# Altium footprint library ece315.PcbLib: 16 footprints
Each footprint in its own frame and in the unit in brackets; x right, y up, seen from the top. Pads: shape width x height; smd on the part's side, far side on the other; paste and mask are expansions set on the pad; w line width, h text height; cw(c..) or ccw(c..) is an arc to the next point about the centre after c.
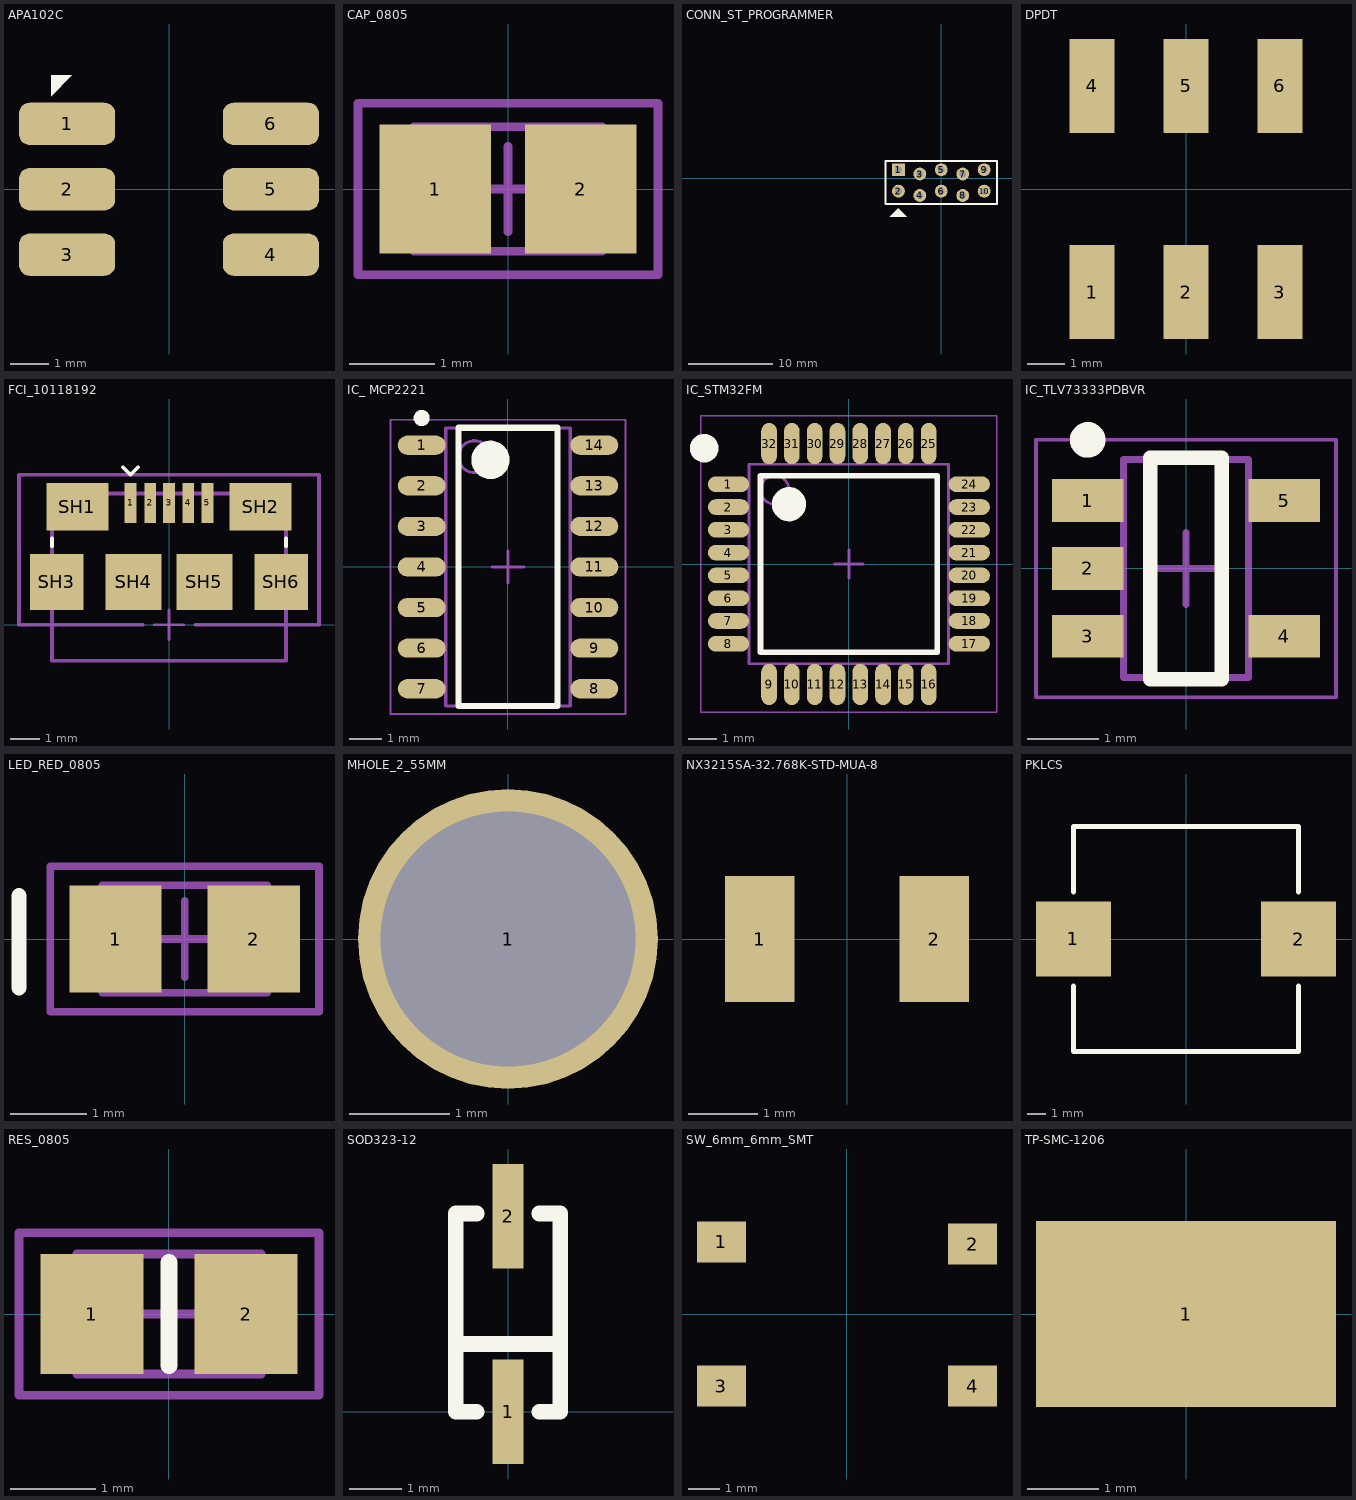
[diagram p0: the footprints below, top view; thin cyan lines are the x and y axes]

## APA102C [mm]
pads (6):
  rrect50% 2.5x1.1 smd: 1(-2.65,1.7) 2(-2.65,0) 3(-2.65,-1.7) 4(2.65,-1.7) 5(2.65,0) 6(2.65,1.7)
Top Overlay:
  region: -3.063,2.962 -3.063,2.423 -2.525,2.962
3D body "APA102C.STEP": height 1.4, standoff -0.15, extent -2.75,-2.5 2.75,2.5

## CAP_0805 [mm]
pads (2):
  rect 1.3x1.5 smd: 1(-0.85,0) 2(0.85,0)
Mechanical 13:
  lines w0.1: -1.1,-0.725 1.1,-0.725 1.1,0.725 -1.1,0.725 -1.1,-0.725
Mechanical 15:
  lines w0.1: -0.5,0 0.5,0 ; 0,-0.5 0,0.5 ; -1.75,-1 1.75,-1 1.75,1 -1.75,1 -1.75,-1
3D body: height 1.1, standoff 0, extent -1.1,-0.725 1.1,0.725

## CONN_ST_PROGRAMMER [mil] "0.100' spaced 5x2 header"
pads (10):
  rect 60x60 hole 31.5: 1(-200,40)
  round 60 hole 31.5: 2(-200,-60) 3(-100,20) 4(-100,-80) 5(0,40) 6(0,-60) 7(100,20) 8(100,-80) 9(200,40) 10(200,-60)
Top Overlay:
  region: -1140,-80
  region: -200,-140 -160,-180 -240,-180
  lines w10: -260,-120 -260,80 260,80 260,-120 -260,-120
3D body: height 10, standoff 0, extent -515,50 -515,50
3D body "STEP-61301021821-rev1.stp": height 330.35, standoff -122.4, extent -259.84,-119.99 259.85,80.01

## DPDT [mm] "SWITCH SLIDE DPDT 300MA 6V"
pads (6):
  rect 1.2x2.5 smd: 1(-2.5,-2.75) 2(0,-2.75) 3(2.5,-2.75) 4(-2.5,2.75) 5(0,2.75) 6(2.5,2.75)

## FCI_10118192 [mm] "Connector Receptacle, Micro USB B-type"
height 2.7
pads (11):
  rect 0.4x1.35 smd: 1(-1.3,4.125) 2(-0.635,4.125) 3(0,4.125) 4(0.65,4.125) 5(1.3,4.125)
  rect 2.1x1.6 smd: SH1(-3.1,4) SH2(3.1,4)
  rect 1.8x1.9 smd: SH3(-3.8,1.45) SH6(3.8,1.45)
  rect 1.9x1.9 smd: SH4(-1.2,1.45) SH5(1.2,1.45)
Top Overlay:
  lines w0.127: -3.96,2.667 -3.96,2.921 ; -1.554,5.334 -1.3,5.08 -1.046,5.334 ; 3.96,2.667 3.96,2.921
Mechanical 1:
  lines w0.127: -3.96,-1.22 3.96,-1.22 3.96,4.445 -3.96,4.445 -3.96,-1.22
Mechanical 15:
  lines w0.1: -0.5,0 0.5,0 ; 0,-0.5 0,0.5
  lines w0.127: -0.889,0 -5.08,0 -5.08,5.08 5.08,5.08 5.08,0 0.889,0
3D body "10118192.step": height 2.74, standoff -0.27, extent -3.956,-1.22 3.956,4.441

## IC_ MCP2221 [mm] "SOIC, 14-Leads, Body 8.65x3.90mm, Pitch 1.27mm, IPC Medium Density"
height 1.75
pads (14):
  oval 1.5x0.6 smd: 1(-2.7,3.81) 2(-2.7,2.54) 3(-2.7,1.27) 4(-2.7,0) 5(-2.7,-1.27) 6(-2.7,-2.54) 7(-2.7,-3.81) 8(2.7,-3.81) 9(2.7,-2.54) 10(2.7,-1.27) 11(2.7,0) 12(2.7,1.27) 13(2.7,2.54) 14(2.7,3.81)
Top Overlay:
  circle w0.25: c-2.7,4.66 r0.125
  circle w0.6: c-0.55,3.35 r0.3
  lines w0.2: -1.55,-4.35 -1.55,4.35 1.55,4.35 1.55,-4.35 -1.55,-4.35
Mechanical 13:
  circle w0.1: c-1.05,3.45 r0.5
  lines w0.1: -1.95,-4.35 -1.95,4.35 1.95,4.35 1.95,-4.35 -1.95,-4.35
Mechanical 15:
  lines w0.05: -3.675,-4.6 -3.675,4.6 3.675,4.6 3.675,-4.6 -3.675,-4.6
  lines w0.1: -0.5,0 0.5,0 ; 0,-0.5 0,0.5
3D body: height 1.75, standoff 0.1, extent -1.95,-4.35 1.95,4.35

## IC_STM32FM [mm] "ST QFP 32 Pins"
height 1.6
pads (32):
  oval 1.45x0.55 smd: 1(-4.225,2.8) 2(-4.225,2) 3(-4.225,1.2) 4(-4.225,0.4) 5(-4.225,-0.4) 6(-4.225,-1.2) 7(-4.225,-2) 8(-4.225,-2.8) 17(4.225,-2.8) 18(4.225,-2) 19(4.225,-1.2) 20(4.225,-0.4) 21(4.225,0.4) 22(4.225,1.2) 23(4.225,2) 24(4.225,2.8)
  oval 0.55x1.45 smd: 9(-2.8,-4.225) 10(-2,-4.225) 11(-1.2,-4.225) 12(-0.4,-4.225) 13(0.4,-4.225) 14(1.2,-4.225) 15(2,-4.225) 16(2.8,-4.225) 25(2.8,4.225) 26(2,4.225) 27(1.2,4.225) 28(0.4,4.225) 29(-0.4,4.225) 30(-1.2,4.225) 31(-2,4.225) 32(-2.8,4.225)
Top Overlay:
  circle w0.5: c-5.08,4.064 r0.25
  circle w0.6: c-2.1,2.1 r0.3
  lines w0.2: -3.1,-3.1 3.1,-3.1 3.1,3.1 -3.1,3.1 -3.1,-3.1
Mechanical 13:
  circle w0.1: c-2.6,2.6 r0.5
  lines w0.1: -3.5,-3.5 3.5,-3.5 3.5,3.5 -3.5,3.5 -3.5,-3.5
Mechanical 15:
  lines w0.05: -5.2,-5.2 5.2,-5.2 5.2,5.2 -5.2,5.2 -5.2,-5.2
  lines w0.1: -0.5,0 0.5,0 ; 0,-0.5 0,0.5
3D body: height 1.6, standoff 0.05, extent -3.5,-3.5 3.5,3.5

## IC_TLV73333PDBVR [mm] "SOT23, 5-Leads, Body 2.90x2.80mm, Pitch 0.95mm, IPC Medium Density"
height 1.45
pads (5):
  rect 1x0.6 smd: 1(-1.375,0.95) 2(-1.375,0) 3(-1.375,-0.95) 4(1.375,-0.95) 5(1.375,0.95)
Top Overlay:
  circle w0.25: c-1.375,1.8 r0.125
  lines w0.2: -0.5,-1.55 0.5,-1.55 0.5,1.55 -0.5,1.55 -0.5,-1.55
Mechanical 13:
  lines w0.1: -0.875,-1.525 -0.875,1.525 0.875,1.525 0.875,-1.525 -0.875,-1.525
Mechanical 15:
  lines w0.05: -2.1,-1.8 -2.1,1.8 2.1,1.8 2.1,-1.8 -2.1,-1.8
  lines w0.1: -0.5,0 0.5,0 ; 0,-0.5 0,0.5
3D body: height 1.45, standoff 0.15, extent -0.875,-1.525 0.875,1.525

## LED_RED_0805 [mm]
pads (2):
  rect 1.2x1.4 smd: 1(-0.9,0) 2(0.9,0)
Top Overlay:
  lines w0.2: -2.159,-0.635 -2.159,0.565
Mechanical 13:
  lines w0.1: -1.075,-0.7 -1.075,0.7 1.075,0.7 1.075,-0.7 -1.075,-0.7
Mechanical 15:
  lines w0.1: -0.5,0 0.5,0 ; 0,-0.5 0,0.5 ; -1.75,-0.95 -1.75,0.95 1.75,0.95 1.75,-0.95 -1.75,-0.95
3D body: height 0.8, standoff 0, extent -1.075,-0.7 1.075,0.7

## MHOLE_2_55MM [mm]
pads (1):
  round 3 / inner round 4.572 / far side round 4.318 hole 2.55: 1(0,0)

## NX3215SA-32.768K-STD-MUA-8 [mm] "CRYSTAL 32.7680KHZ 12.5PF SMD"
pads (2):
  rect 1x1.8 smd: 1(-1.25,0) 2(1.25,0)

## PKLCS [mm]
pads (2):
  rect 4x4 smd: 1(-6,0) 2(6,0)
Top Overlay:
  lines w0.254: -6,-2.5 -6,-6 6,-6 6,-2.5 ; -6,2.5 -6,6 6,6 6,2.5

## RES_0805 [mm]
pads (2):
  rect 1.2x1.4 smd: 1(-0.9,0) 2(0.9,0)
Top Overlay:
  lines w0.2: 0,-0.6 0,0.6
Mechanical 13:
  lines w0.1: -1.075,-0.7 1.075,-0.7 1.075,0.7 -1.075,0.7 -1.075,-0.7
Mechanical 15:
  lines w0.1: -0.5,0 0.5,0 ; 0,-0.5 0,0.5 ; -1.75,-0.95 1.75,-0.95 1.75,0.95 -1.75,0.95 -1.75,-0.95
3D body: height 0.65, standoff 0, extent -1.075,-0.7 1.075,0.7

## SOD323-12 [mm]
pads (2):
  rect 0.6x2 smd: 1(0,0) 2(0,3.75)
Top Overlay:
  lines w0.3: -1,1.3 1,1.3 ; -0.6,0 -1,0 -1,3.8 -0.6,3.8 ; 0.6,0 1,0 1,3.8 0.6,3.8

## SW_6mm_6mm_SMT [mm]
pads (4):
  rect 1.55x1.3 smd: 1(-3.975,2.286) 2(3.975,2.214) 3(-3.975,-2.286) 4(3.975,-2.286)
3D body "PushButton_6mmx6mm.stp": height 3.92, standoff -0.48, extent -5,-3.036 5,2.964

## TP-SMC-1206 [mm]
pads (1):
  rect 4.2x2.6 smd mask+0: 1(0,0)
3D body "c-1625854-1-ba-3d.stp": height 1.22, standoff -0.03, extent -1.575,-0.787 1.625,0.813